# Altium footprint library WE-LHCA.PcbLib: 4 footprints
Each footprint in its own frame and in the unit in brackets; x right, y up, seen from the top. Pads: shape width x height; smd on the part's side, far side on the other; paste and mask are expansions set on the pad; w line width, h text height; cw(c..) or ccw(c..) is an arc to the next point about the centre after c.
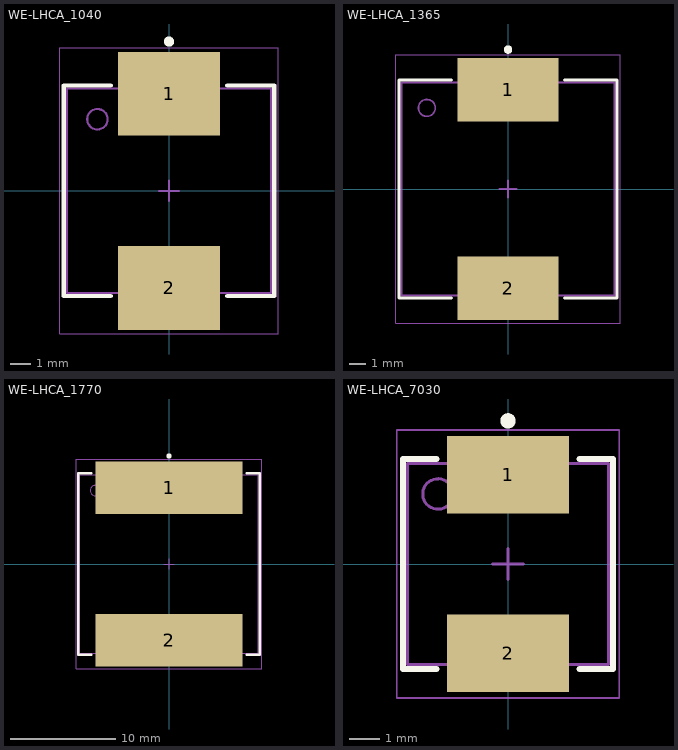
[diagram p0: the footprints below, top view; thin cyan lines are the x and y axes]

## WE-LHCA_1040 [mm] "SMD Power Inductor, 2-Leads, body 10x10mm"
height 3.8
pads (2):
  rect 5x4.1 smd: 1(0,4.75) 2(0,-4.75)
Top Overlay:
  circle w0.25: c0,7.3 r0.125
  lines w0.2: -2.85,-5.15 -5.15,-5.15 -5.15,5.15 -2.85,5.15 ; 2.85,-5.15 5.15,-5.15 5.15,5.15 2.85,5.15
Top Assembly:
  circle w0.1: c-3.5,3.5 r0.5
  lines w0.1: -5,-5 -5,5 5,5 5,-5 -5,-5
Top Designator:
  text ".Designator" at -3.647,-0.357 h1
Top Courtyard:
  lines w0.05: -5.35,-7 -5.35,7 5.35,7 5.35,-7 -5.35,-7
Top Component Center:
  lines w0.1: -0.5,0 0.5,0 ; 0,-0.5 0,0.5
3D body "784373680xxx.stp": height 4.01, standoff 0.05, extent -5,-5.425 5,5.425

## WE-LHCA_1365 [mm] "SMD Power Inductor, 2-Leads, body 13.45 x 12.60 mm"
height 6.3
pads (2):
  rect 6x3.75 smd: 1(0,5.875) 2(0,-5.875)
Top Overlay:
  circle w0.25: c0,8.25 r0.125
  lines w0.2: -3.35,-6.45 -6.45,-6.45 -6.45,6.45 -3.35,6.45 ; 3.35,-6.45 6.45,-6.45 6.45,6.45 3.35,6.45
Top Assembly:
  circle w0.1: c-4.8,4.8 r0.5
  lines w0.1: -6.3,-6.3 6.3,-6.3 6.3,6.3 -6.3,6.3 -6.3,-6.3
Top Designator:
  text ".Designator" at -3.647,-0.357 h1
Top Courtyard:
  lines w0.05: -6.65,-7.95 -6.65,7.95 6.65,7.95 6.65,-7.95 -6.65,-7.95
Top Component Center:
  lines w0.1: -0.5,0 0.5,0 ; 0,-0.5 0,0.5
3D body "784373865xxx.stp": height 6.46, standoff 0, extent -6.3,-6.725 6.3,6.725

## WE-LHCA_1770 [mm] "SMD Power Inductor, 2-Leads, body 17.45 x 16.95 mm"
height 6.8
pads (2):
  rect 14x5 smd: 1(0,7.25) 2(0,-7.25)
Top Overlay:
  circle w0.25: c0,10.25 r0.125
  lines w0.2: -7.35,-8.625 -8.625,-8.625 -8.625,8.625 -7.35,8.625 ; 7.35,-8.625 8.625,-8.625 8.625,8.625 7.35,8.625
Top Assembly:
  circle w0.1: c-6.975,6.975 r0.5
  lines w0.1: -8.475,-8.475 -8.475,8.475 8.475,8.475 8.475,-8.475 -8.475,-8.475
Top Designator:
  text ".Designator" at -3.647,-0.357 h1
Top Courtyard:
  lines w0.05: -8.825,-9.95 -8.825,9.95 8.825,9.95 8.825,-9.95 -8.825,-9.95
Top Component Center:
  lines w0.1: -0.5,0 0.5,0 ; 0,-0.5 0,0.5
3D body "784373170xxx.stp": height 7.01, standoff 0, extent -8.475,-8.725 8.475,8.725

## WE-LHCA_7030 [mm] "SMD Power Inductor, 2-Leads, body 6.95 x 6.60 mm"
height 2.8
pads (2):
  rect 4x2.55 smd: 1(0,2.925) 2(0,-2.925)
Top Overlay:
  circle w0.25: c0,4.7 r0.125
  lines w0.2: -2.35,-3.45 -3.45,-3.45 -3.45,3.45 -2.35,3.45 ; 2.35,-3.45 3.45,-3.45 3.45,3.45 2.35,3.45
Top Assembly:
  circle w0.1: c-2.3,2.3 r0.5
  lines w0.1: -3.3,-3.3 3.3,-3.3 3.3,3.3 -3.3,3.3 -3.3,-3.3
Top Designator:
  text ".Designator" at -3.647,-0.357 h1
Top Courtyard:
  lines w0.05: -3.65,-4.4 -3.65,4.4 3.65,4.4 3.65,-4.4 -3.65,-4.4
Top Component Center:
  lines w0.1: -0.5,0 0.5,0 ; 0,-0.5 0,0.5
3D body "784373460xxx.stp": height 3.01, standoff 0.05, extent -3.3,-3.475 3.3,3.475